# EAGLE library part FT230X (library pimoroni)
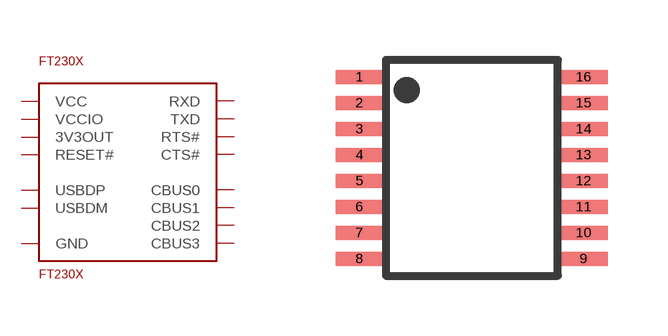
[diagram p27: symbol with the pads of TSSOP-16; footprint TSSOP-16]

Designator prefix -

## FT230X  [TSSOP-16]
1  VCCIO
2  RXD
3  GND
4  CTS#
5  CBUS2
6  USBDP
7  USBDM
8  3V3OUT
9  RESET#
10  VCC
11  CBUS1
12  CBUS0
13  GND
14  CBUS3
15  TXD
16  RTS#

## Footprint TSSOP-16 (pad centres in mm)
PW (R-PDSO-G8) Source: http://focus.ti.com/lit/ds/symlink/ads1271.pdf
smd 1.2 x 0.35: 1 -2.808,2.275; 2 -2.808,1.625; 3 -2.808,0.975; 4 -2.808,0.325; 5 -2.808,-0.325; 6 -2.808,-0.975; 7 -2.808,-1.625; 8 -2.808,-2.275; 9 2.795,-2.275; 10 2.795,-1.625; 11 2.795,-0.975; 12 2.795,-0.325; 13 2.795,0.325; 14 2.795,0.975; 15 2.795,1.625; 16 2.795,2.275